# EAGLE library part USB-TO-QUAD-RS-485-CONV-MODULE (library USB-to-Quad-RS-485-Conv-Module)
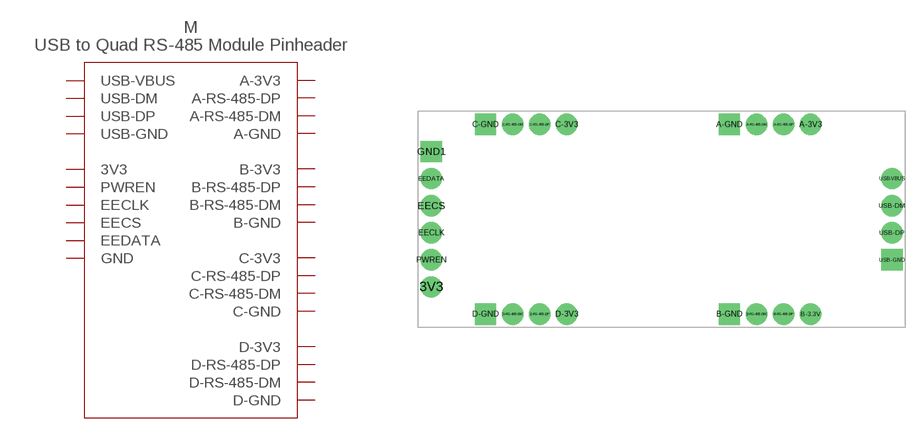
[diagram p0: symbol with the pads of USB-TO-QUAD-RS-485-CONV-MODULE-SILK; footprint USB-TO-QUAD-RS-485-CONV-MODULE-SILK]

Designator prefix M

## USB-TO-QUAD-RS-485-CONV-MODULET-PLACE  [USB-TO-QUAD-RS-485-CONV-MODULE-SILK]
3V3  3V3
A-3V3  A-3V3
A-GND  A-GND
A-RS-485-DM  A-RS-485-DM
A-RS-485-DP  A-RS-485-DP
B-3.3V  B-3V3
B-GND  B-GND
B-RS-485-DM  B-RS-485-DM
B-RS-485-DP  B-RS-485-DP
C-3V3  C-3V3
C-GND  C-GND
C-RS-485-DM  C-RS-485-DM
C-RS-485-DP  C-RS-485-DP
D-3V3  D-3V3
D-GND  D-GND
D-RS-485-DM  D-RS-485-DM
D-RS-485-DP  D-RS-485-DP
EECLK  EECLK
EECS  EECS
EEDATA  EEDATA
GND1  GND
PWREN  PWREN
USB-DM  USB-DM
USB-DP  USB-DP
USB-GND  USB-GND
USB-VBUS  USB-VBUS

## Footprint USB-TO-QUAD-RS-485-CONV-MODULE-SILK (pad centres in mm)
drill 1 pad 2: 3V3 1.27,3.81; A-3V3 36.83,19.05; A-RS-485-DM 31.75,19.05; A-RS-485-DP 34.29,19.05; B-3.3V 36.83,1.27; B-RS-485-DM 31.75,1.27; B-RS-485-DP 34.29,1.27; C-3V3 13.97,19.05; C-RS-485-DM 8.89,19.05; C-RS-485-DP 11.43,19.05; D-3V3 13.97,1.27; D-RS-485-DM 8.89,1.27; D-RS-485-DP 11.43,1.27; EECLK 1.27,8.89; EECS 1.27,11.43; EEDATA 1.27,13.97; PWREN 1.27,6.35; USB-DM 44.45,11.43; USB-DP 44.45,8.89; USB-VBUS 44.45,13.97
drill 1 pad 2 square: A-GND 29.21,19.05; B-GND 29.21,1.27; C-GND 6.35,19.05; D-GND 6.35,1.27; GND1 1.27,16.51; USB-GND 44.45,6.35